# Altium footprint library Buttons.PcbLib: 14 footprints
Each footprint in its own frame and in the unit in brackets; x right, y up, seen from the top. Pads: shape width x height; smd on the part's side, far side on the other; paste and mask are expansions set on the pad; w line width, h text height; cw(c..) or ccw(c..) is an arc to the next point about the centre after c.
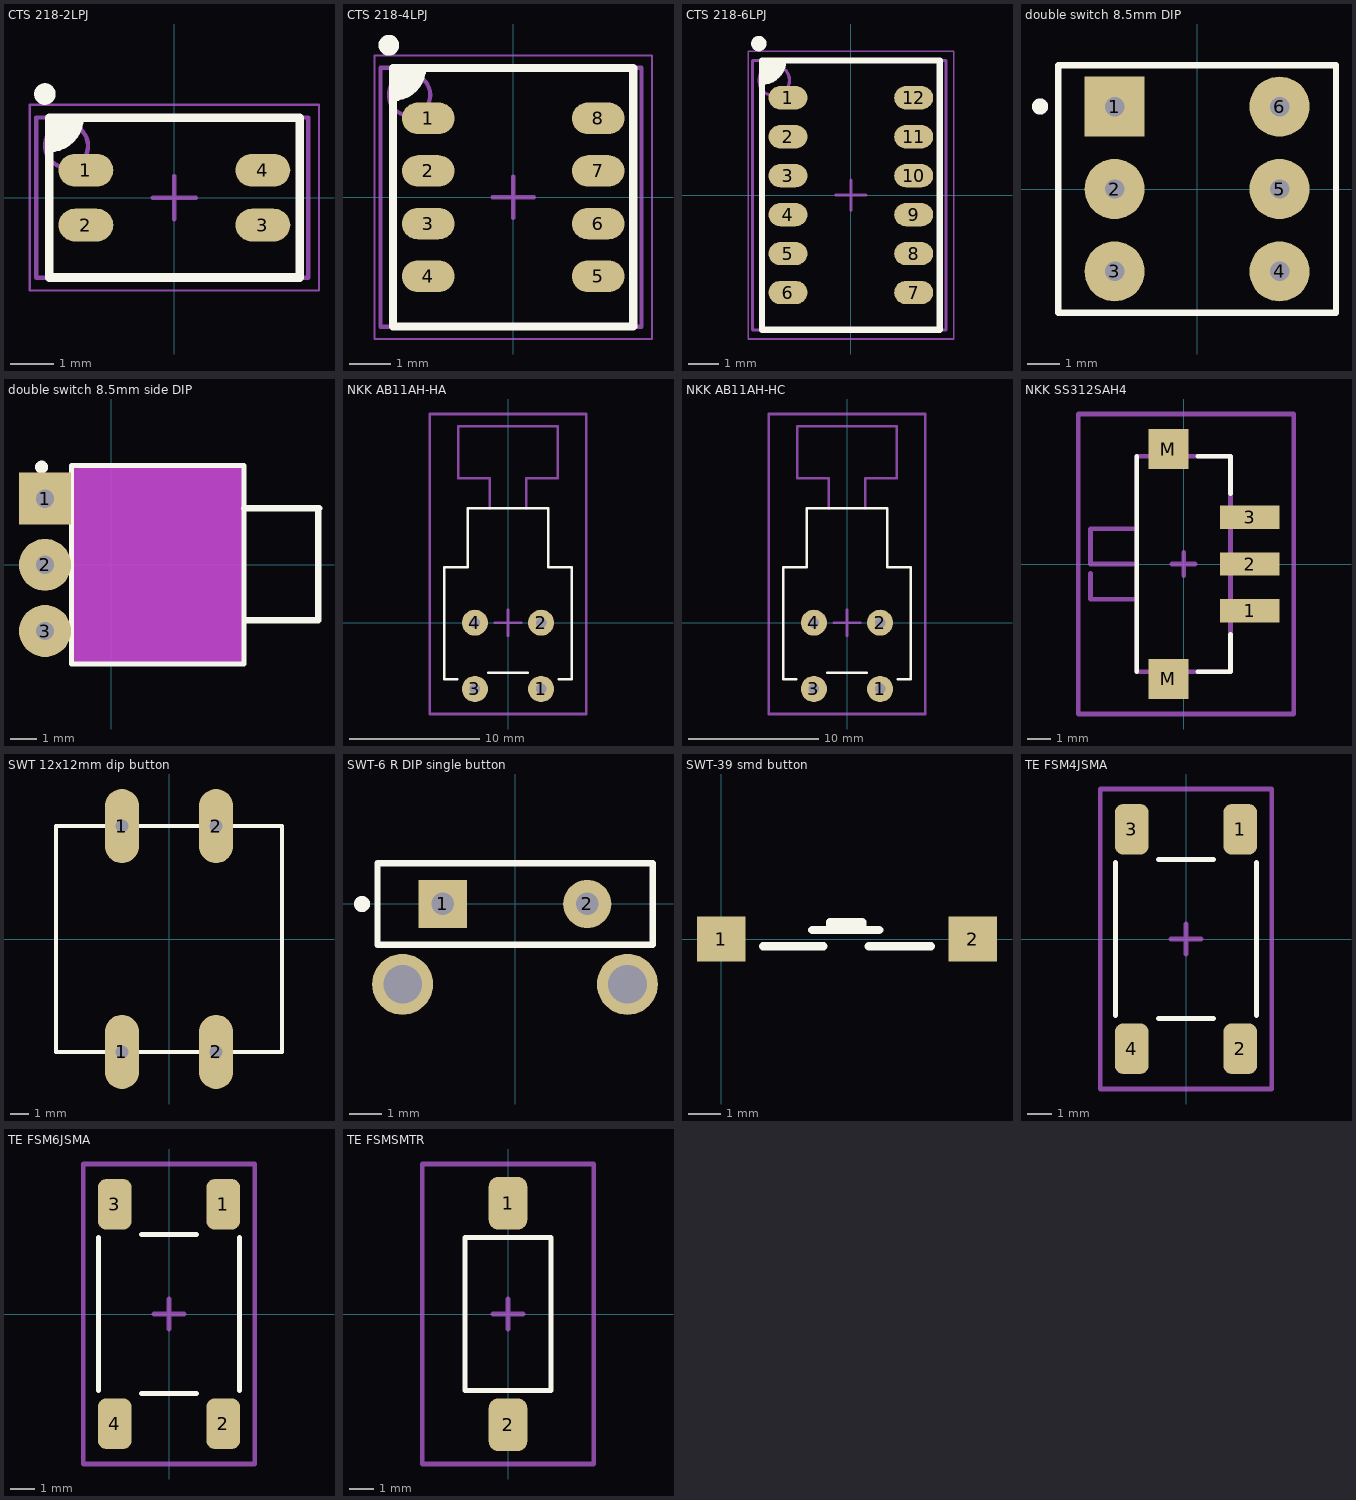
[diagram p0: the footprints below, top view; thin cyan lines are the x and y axes]

## CTS 218-2LPJ [mm] "DIP, 2 POS, Body 3.71x6.05mm, Pitch 1.27mm, IPC Medium Density"
height 2.7
pads (4):
  oval 1.27x0.76 smd: 1(-2.05,0.635) 2(-2.05,-0.635) 3(2.05,-0.635) 4(2.05,0.635)
Top Overlay:
  circle w0.25: c-3,2.4 r0.125
  region: -2.9,1.85 -2.9,1.1 -2.7,1.1 -2.2,1.6 -2.2,1.85
  lines w0.2: -2.9,1.15 ccw(c-2.9,1.85) -2.2,1.85 ; -2.9,-1.85 -2.9,1.85 2.9,1.85 2.9,-1.85 -2.9,-1.85
Mechanical 13:
  circle w0.1: c-2.5,1.2 r0.5
  lines w0.1: -3.2,-1.855 3.1,-1.855 3.1,1.855 -3.2,1.855 -3.2,-1.855
Mechanical 15:
  lines w0.05: -3.35,-2.15 3.35,-2.15 3.35,2.15 -3.35,2.15 -3.35,-2.15
  lines w0.1: -0.5,0 0.5,0 ; 0,-0.5 0,0.5
3D body "CTS-218-2LPSTJ.STEP": height 2.71, standoff 0, extent -3.155,-1.855 3.155,1.855

## CTS 218-4LPJ [mm] "DIP, 6 POS, Body 8.79x6.05mm, Pitch 1.27mm, IPC Medium Density"
height 2.7
pads (8):
  oval 1.27x0.76 smd: 1(-2.05,1.905) 2(-2.05,0.635) 3(-2.05,-0.635) 4(-2.05,-1.905) 5(2.05,-1.905) 6(2.05,-0.635) 7(2.05,0.635) 8(2.05,1.905)
Top Overlay:
  circle w0.25: c-3,3.67 r0.125
  region: -2.9,3.12 -2.9,2.37 -2.7,2.37 -2.2,2.87 -2.2,3.12
  lines w0.2: -2.9,2.42 ccw(c-2.9,3.12) -2.2,3.12 ; -2.9,-3.12 2.9,-3.12 2.9,3.12 -2.9,3.12 -2.9,-3.12
Mechanical 13:
  circle w0.1: c-2.5,2.47 r0.5
  lines w0.1: -3.2,-3.125 -3.2,3.125 3.1,3.125 3.1,-3.125 -3.2,-3.125
Mechanical 15:
  lines w0.05: -3.35,-3.42 -3.35,3.42 3.35,3.42 3.35,-3.42 -3.35,-3.42
  lines w0.1: -0.5,0 0.5,0 ; 0,-0.5 0,0.5
3D body "CTS-218-4LPSTJ.STEP": height 2.71, standoff 0, extent -3.155,-3.125 3.155,3.125

## CTS 218-6LPJ [mm] "DIP, 4 POS, Body 6.25x6.05mm, Pitch 1.27mm, IPC Medium Density"
height 2.7
pads (12):
  oval 1.27x0.76 smd: 1(-2.05,3.175) 2(-2.05,1.905) 3(-2.05,0.635) 4(-2.05,-0.635) 5(-2.05,-1.905) 6(-2.05,-3.175) 7(2.05,-3.175) 8(2.05,-1.905) 9(2.05,-0.635) 10(2.05,0.635) 11(2.05,1.905) 12(2.05,3.175)
Top Overlay:
  circle w0.25: c-3,4.94 r0.125
  region: -2.9,4.39 -2.9,3.64 -2.7,3.64 -2.2,4.14 -2.2,4.39
  lines w0.2: -2.9,3.69 ccw(c-2.9,4.39) -2.2,4.39 ; -2.9,-4.39 -2.9,4.39 2.9,4.39 2.9,-4.39 -2.9,-4.39
Mechanical 13:
  circle w0.1: c-2.5,3.74 r0.5
  lines w0.1: -3.2,-4.395 3.1,-4.395 3.1,4.395 -3.2,4.395 -3.2,-4.395
Mechanical 15:
  lines w0.05: -3.35,-4.69 3.35,-4.69 3.35,4.69 -3.35,4.69 -3.35,-4.69
  lines w0.1: -0.5,0 0.5,0 ; 0,-0.5 0,0.5
3D body "CTS-218-6LPSTJ.STEP": height 2.71, standoff 0, extent -3.155,-4.395 3.155,4.395

## double switch 8.5mm DIP [mm] "Switch; 6 Leads"
pads (6):
  rect 1.85x1.85 hole 0.6: 1(-2.54,2.54)
  round 1.85 hole 0.6: 2(-2.54,0) 3(-2.54,-2.54) 4(2.54,-2.54) 5(2.54,0) 6(2.54,2.54)
Top Overlay:
  circle w0.25: c-4.836,2.541 r0.125
  lines w0.2: -4.28,-3.81 -4.28,3.81 4.28,3.81 4.28,-3.81 -4.28,-3.81
3D body "User Library-button with fixation.step": height 13.21, standoff -3.79, extent -3.5,-3.5 3.5,3.5

## double switch 8.5mm side DIP [mm] "Switch; 3 Leads"
pads (3):
  rect 2x2 hole 0.7: 1(-2.54,2.54)
  round 2 hole 0.7: 2(-2.54,0) 3(-2.54,-2.54)
Top Overlay:
  circle w0.25: c-2.675,3.75 r0.125
  lines w0.2: -1.525,-3.81 5.1,-3.81 5.1,3.81 -1.525,3.81 -1.525,-3.81
  lines w0.254: 5.1,2.175 7.975,2.175 7.95,2.15 7.95,-2.125 ; 5.175,-2.125 7.95,-2.125 ; 7.95,-2.125 7.95,-2.125
Mechanical 1 keep-out:
  region: -1.525,-3.81 5.1,-3.81 5.1,3.81 -1.525,3.81

## NKK AB11AH-HA [mm]
height 6.18
pads (4):
  round 2 hole 0.8: 1(2.54,-5.08) 2(2.54,0) 3(-2.54,-5.08) 4(-2.54,0)
Top Overlay:
  lines w0.2: -3.9,-4.34 -4.9,-4.34 -4.9,4.26 -3.1,4.26 -3.1,8.76 3.1,8.76 3.1,4.26 4.9,4.26 4.9,-4.34 3.9,-4.34 ; -1.5,-3.84 1.5,-3.84
Mechanical 1:
  lines w0.2: -1.4,8.76 -1.4,11.06 -3.8,11.06 -3.8,15.06 3.8,15.06 3.8,11.06 1.4,11.06 1.4,8.76
Mechanical 15:
  lines w0.2: -1,0 1,0 ; 0,-1 0,1 ; -6,-7 -6,16 6,16 6,-7 -6,-7
3D body "NKK AB11AH-HA.STEP": height 7.06, standoff -3.1, extent -4.902,-5.39 4.902,15.082

## NKK AB11AH-HC [mm]
height 6.18
pads (4):
  round 2 hole 0.8: 1(2.54,-5.08) 2(2.54,0) 3(-2.54,-5.08) 4(-2.54,0)
Top Overlay:
  lines w0.2: -3.9,-4.34 -4.9,-4.34 -4.9,4.26 -3.1,4.26 -3.1,8.76 3.1,8.76 3.1,4.26 4.9,4.26 4.9,-4.34 3.9,-4.34 ; -1.5,-3.84 1.5,-3.84
Mechanical 1:
  lines w0.2: -1.4,8.76 -1.4,11.06 -3.8,11.06 -3.8,15.06 3.8,15.06 3.8,11.06 1.4,11.06 1.4,8.76
Mechanical 15:
  lines w0.2: -1,0 1,0 ; 0,-1 0,1 ; -6,-7 -6,16 6,16 6,-7 -6,-7
3D body "NKK AB11AH-HC.STEP": height 7.06, standoff -3.1, extent -4.902,-5.39 4.902,15.082

## NKK SS312SAH4 [mm]
height 2.9
pads (5):
  rect 2.55x1 smd: 1(2.825,-2) 2(2.825,0) 3(2.825,2)
  rect 1.7x1.7 smd: M(-0.65,-4.9) M(-0.65,4.9)
Top Overlay:
  lines w0.2: -2,-4.6 -2,4.6 ; 0.6,-4.6 2,-4.6 2,-3 ; 0.6,4.6 2,4.6 2,3
Mechanical 1:
  lines w0.2: -3.976,-0.4 -3.976,-1.5 -2,-1.5 ; -2,0 -3.976,0 -3.976,1.5 -2,1.5 ; -2,-4.6 2,-4.6 2,4.6 -2,4.6 -2,-4.6
Mechanical 15:
  lines w0.2: -0.5,0 0.5,0 ; 0,-0.5 0,0.5 ; -4.5,-6.4 4.7,-6.4 4.7,6.4 -4.5,6.4 -4.5,-6.4
3D body "NKK SS312SAH4.STEP": height 2.9, standoff -0.15, extent -3.976,-5.245 3.416,5.245

## SWT 12x12mm dip button [mm] "Big button"
pads (4):
  oval 1.85x4 hole 0.7: 1(-2.54,-6.096) 1(-2.54,6.096) 2(2.54,-6.096) 2(2.54,6.096)
Top Overlay:
  lines w0.2: -6.096,-6.096 -6.096,6.096 6.096,6.096 6.096,-6.096 -6.096,-6.096
3D body "User Library-SWT9-1.step": height 8.81, standoff -1.99, extent -5.969,-6.5 6.031,6.5

## SWT-6 R DIP single button [mm] "Button, 2 Leads"
pads (4):
  rect 1.5x1.5 hole 0.7: 1(-2.25,0)
  round 1.5 hole 0.7: 2(2.25,0)
  round 1.9 hole 1.2: ""(-3.5,-2.5) ""(3.5,-2.5)
Top Overlay:
  circle w0.25: c-4.761,-0.001 r0.125
  lines w0.2: -4.28,-1.27 4.28,-1.27 4.28,1.27 -4.28,1.27 -4.28,-1.27
3D body "User Library-SWT6-R6K.step": height 7.81, standoff -3.49, extent -4.1,-3.963 4.098,8.387

## SWT-39 smd button [mm] "TM1103R25B"
height 2.5
pads (2):
  rect 1.5x1.4 smd: 1(0,0) 2(7.8,0)
Top Overlay:
  lines w0.254: 1.3,-0.225 3.175,-0.225 ; 2.825,0.275 4.9,0.275 ; 3.375,0.35 3.375,0.525 4.375,0.525 4.375,0.3 ; 4.575,-0.225 6.5,-0.225
3D body "User Library-SWT-39.step": height 2.5, standoff 0, extent -0.19,-1.905 7.81,1.795

## TE FSM4JSMA [mm]
height 5.08
pads (4):
  rrect50% 1.4x2.1 smd: 1(2.25,4.55) 2(2.25,-4.55) 3(-2.25,4.55) 4(-2.25,-4.55)
Top Overlay:
  lines w0.2: -2.921,-3.175 -2.921,3.175 ; -1.143,-3.302 1.143,-3.302 ; -1.143,3.302 1.143,3.302 ; 2.921,-3.175 2.921,3.175
Mechanical 15:
  lines w0.2: -0.635,0 0.635,0 ; 0,-0.635 0,0.635 ; -3.556,-6.223 3.556,-6.223 3.556,6.223 -3.556,6.223 -3.556,-6.223
3D body "FSM4JSMA.STEP": height 5.08, standoff 0, extent -3,-5 3,5

## TE FSM6JSMA [mm]
height 7.11
pads (4):
  rrect50% 1.4x2.1 smd: 1(2.25,4.55) 2(2.25,-4.55) 3(-2.25,4.55) 4(-2.25,-4.55)
Top Overlay:
  lines w0.2: -2.921,-3.175 -2.921,3.175 ; -1.143,-3.302 1.143,-3.302 ; -1.143,3.302 1.143,3.302 ; 2.921,-3.175 2.921,3.175
Mechanical 15:
  lines w0.2: -0.635,0 0.635,0 ; 0,-0.635 0,0.635 ; -3.556,-6.223 3.556,-6.223 3.556,6.223 -3.556,6.223 -3.556,-6.223
3D body "FSM6JSMA.STEP": height 7.11, standoff 0, extent -3,-5 3,5

## TE FSMSMTR [mm]
height 4.42
pads (2):
  rrect50% 1.6x2.19 smd: 1(0,4.595) 2(0,-4.595)
Top Overlay:
  lines w0.2: -1.778,-3.175 1.778,-3.175 1.778,3.175 -1.778,3.175 -1.778,-3.175
Mechanical 15:
  lines w0.2: -0.635,0 0.635,0 ; 0,-0.635 0,0.635 ; -3.556,-6.223 -3.556,6.223 3.556,6.223 3.556,-6.223 -3.556,-6.223
3D body "FSMSMTR.STEP": height 4.42, standoff 0, extent -1.75,-4.984 1.75,4.985